# Altium schematic symbol library LM2937.SchLib: 1 symbol
Pins are listed as number, name and electrical type; pins without a type are passive.

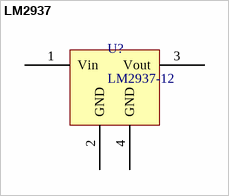
[diagram p0: symbol LM2937]

## LM2937
designator U?, comment LM2937-12
footprint SOT230P700X180-4N (SOT223, 4-Leads, Body 6.7x7.3mm (max), Pitch 2.30mm, IPC Medium Density)
pins: 1 Vin, 2 GND (power), 3 Vout (power), 4 GND (power)